# EAGLE library part TCMT4100 (library K-OPT)
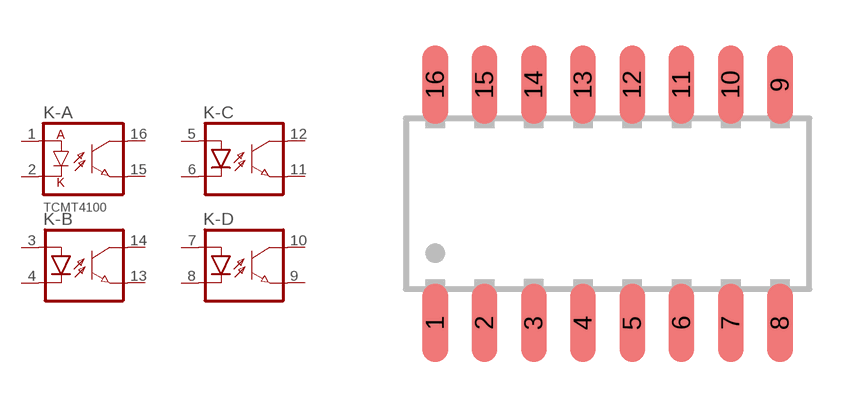
[diagram p0: symbol with the pads of SO16; footprint SO16]

Designator prefix K; gates -A=OPTO-OC-V -B=OPTO-OC-NV -C=OPTO-OC-NV -D=OPTO-OC-NV

## TCMT4100  [SO16]
1  -A:A  pas
2  -A:K  pas
3  -B:A  pas
4  -B:K  pas
5  -C:A  pas
6  -C:K  pas
7  -D:A  pas
8  -D:K  pas
9  -D:E  pas
10  -D:C  pas
11  -C:E  pas
12  -C:C  pas
13  -B:E  pas
14  -B:C  pas
15  -A:E  pas
16  -A:C  pas

## Footprint SO16 (pad centres in mm)
16 SOIC
smd 0.66 x 2.032: 1 -4.445,-3.073; 2 -3.175,-3.073; 3 -1.905,-3.073; 4 -0.635,-3.073; 5 0.635,-3.073; 6 1.905,-3.073; 7 3.175,-3.073; 8 4.445,-3.073; 9 4.445,3.073; 10 3.175,3.073; 11 1.905,3.073; 12 0.635,3.073; 13 -0.635,3.073; 14 -1.905,3.073; 15 -3.175,3.073; 16 -4.445,3.073